# EAGLE library part CD74HC4067-SM96_16:1_MUX-DEMUX (library MrSwirlyEyes)
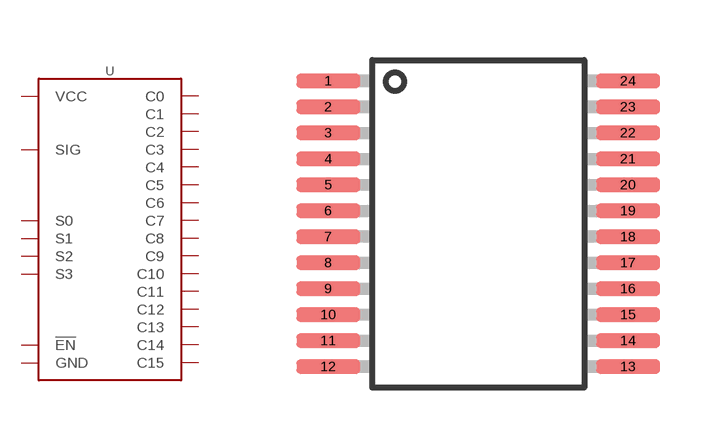
[diagram p1: symbol with the pads of SSOP-24; footprint SSOP-24]

Designator prefix U

## CD74HC4067-SM96_16:1_MUX-DEMUX (CREATOR: MrSwirlyEyes; DATASHEET: http://www.ti.com/lit/ds/symlink/cd74hc4067.pdf; DIST: Digikey; DISTLINK: https://www.digikey.com/products/en?keywords=296-9226-1-ND; DISTPN: 296-9226-1-ND; MFR: Texas Instruments; MPN: CD74HC4067SM96; TESTED: NO; VALUE: CH16_MUX-DEMUX)  [SSOP-24]
1  SIG  pas
2  C7  pas
3  C6  pas
4  C5  pas
5  C4  pas
6  C3  pas
7  C2  pas
8  C1  pas
9  C0  pas
10  S0  pas
11  S1  pas
12  GND  pas
13  S3  pas
14  S2  pas
15  !EN  pas
16  C15  pas
17  C14  pas
18  C13  pas
19  C12  pas
20  C11  pas
21  C10  pas
22  C9  pas
23  C8  pas
24  VCC  pas

## Footprint SSOP-24 (pad centres in mm)
smd 1.6 x 0.35: 1 -3.75,3.575; 2 -3.75,2.925; 3 -3.75,2.275; 4 -3.75,1.625; 5 -3.75,0.975; 6 -3.75,0.325; 7 -3.75,-0.325; 8 -3.75,-0.975; 9 -3.75,-1.625; 10 -3.75,-2.275; 11 -3.75,-2.925; 12 -3.75,-3.575; 13 3.75,-3.575; 14 3.75,-2.925; 15 3.75,-2.275; 16 3.75,-1.625; 17 3.75,-0.975; 18 3.75,-0.325; 19 3.75,0.325; 20 3.75,0.975; 21 3.75,1.625; 22 3.75,2.275; 23 3.75,2.925; 24 3.75,3.575